# Altium integrated library OUTDOOR_2.IntLib: 26 symbols (part 2 of 2)

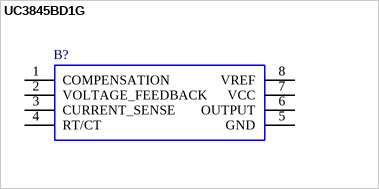
[diagram p23: symbol UC3845BD1G]

## UC3845BD1G
designator B?
Switching Controllers 52kHz 1A Current PWM w/48% Duty Cycle Max; Manufacturer_Name: onsemi; Geometry.Height: 1.75mm; Manufacturer_Part_Number: UC3845BD1G; Mouser Part Number: 863-UC3845BD1G; Mouser Price/Stock: https://www.mouser.co.uk/ProductDetail/onsemi/UC3845BD1G?qs=xZq1yRCsb1d5dYyiJIRbnw%3D%3D; Arrow Part Number: UC3845BD1G; Arrow Price/Stock: https://www.arrow.com/en/products/uc3845bd1g/on-semiconductor?region=europe; Mouser Testing Part Number: *; Mouser Testing Price/Stock: *; Datasheet Link: https://componentsearchengine.com/Datasheets/2/UC3845BD1G.pdf
footprint SOIC127P600X175-8N
footprint SOP254P1040X485-8N
footprint SOIC127P600X175-8N
pins: 1 COMPENSATION, 2 VOLTAGE_FEEDBACK, 3 CURRENT_SENSE, 4 RT/CT, 5 GND, 6 OUTPUT, 7 VCC, 8 VREF


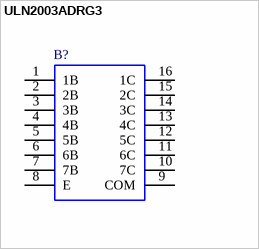
[diagram p24: symbol ULN2003ADRG3]

## ULN2003ADRG3
designator B?
HIGH-VOLTAGE, HIGH-CURRENT DARLINGTON TRANSISTOR ARRAYS; Manufacturer_Name: Texas Instruments; Geometry.Height: 1.75mm; Manufacturer_Part_Number: ULN2003ADRG3; Mouser Part Number: 595-ULN2003ADRG3; Mouser Price/Stock: https://www.mouser.co.uk/ProductDetail/Texas-Instruments/ULN2003ADRG3?qs=EuM%2FBx4ov4S9cNTsuvFOhA%3D%3D; Arrow Part Number: ULN2003ADRG3; Arrow Price/Stock: https://www.arrow.com/en/products/uln2003adrg3/texas-instruments?region=nac; Mouser Testing Part Number: *; Mouser Testing Price/Stock: *; Datasheet Link: http://www.ti.com/lit/gpn/uln2003a
footprint SOIC127P600X175-16N
pins: 1 1B, 2 2B, 3 3B, 4 4B, 5 5B, 6 6B, 7 7B, 8 E, 9 COM, 10 7C, 11 6C, 12 5C, 13 4C, 14 3C, 15 2C, 16 1C


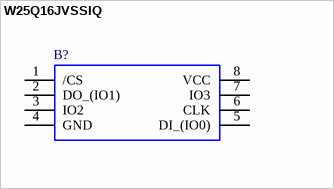
[diagram p25: symbol W25Q16JVSSIQ]

## W25Q16JVSSIQ
designator B?
16M-bit Serial Flash Memory with uniform 4KB sectors and Dual/Quad SPI; Manufacturer_Name: Winbond; Geometry.Height: 2.16mm; Manufacturer_Part_Number: W25Q16JVSSIQ; Mouser Part Number: 454-W25Q16JVSSIQ; Mouser Price/Stock: https://www.mouser.co.uk/ProductDetail/Winbond/W25Q16JVSSIQ?qs=qSfuJ%252Bfl%2Fd46L%2F1QrQC%2Fog%3D%3D; Arrow Part Number: W25Q16JVSSIQ; Arrow Price/Stock: https://www.arrow.com/en/products/w25q16jvssiq/winbond-electronics?region=nac; Mouser Testing Part Number: *; Mouser Testing Price/Stock: *; Datasheet Link: https://www.winbond.com/hq/search-resource-file.jsp?partNo=W25Q16JVSSIQ&type=datasheet
footprint SOIC127P790X216-8N
footprint SOP254P1040X485-8N
pins: 1 /CS, 2 DO_(IO1), 3 IO2, 4 GND, 5 DI_(IO0), 6 CLK, 7 IO3, 8 VCC